# Altium schematic symbol library Thermistor - NTC.SchLib: 283 symbols (part 3 of 5)
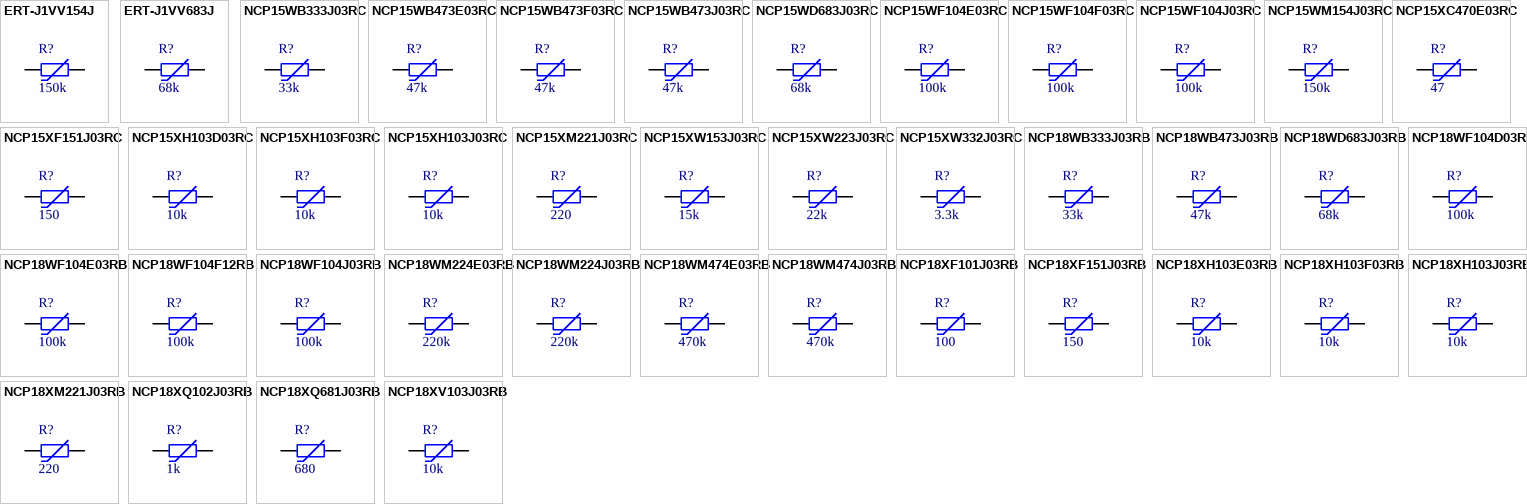
[diagram p9: symbols ERT-J1VV154J to NCP18XV103J03RB]

## NCP15WF104F03RC
designator R?  Resistance in Ohms @ 25C: 100k
THERMISTOR NTC 100K OHM 1% 0402; Part Number: NCP15WF104F03RC; Manufacturer: Murata Electronics North America; TemperatureRange: -40C ~ 125C; B25/50: 4250K; B25/85: 4311K; B25/100: 4334K; Power - Max: 100mW; Value: 100k; PartId: 16482; Supplier 1: Digi-Key; Supplier Part Number 1: 490-4803-2-ND; ComponentLink1Description: Datasheet; ComponentLink1URL: http://www.murata.com/~/media/webrenewal/support/library/catalog/products/thermistor/ntc/r44e.ashx; ComponentLink2Description: Digi-Key Listing; ComponentLink2URL: https://www.digikey.com/product-detail/en/murata-electronics-north-america/NCP15WF104F03RC/490-4803-2-ND/1644668; Price: 0.0372; Resistance Tolerance: 1%; B Value Tolerance: 1%; Device Package: 0402 (1005 Metric)
footprint FER 0402/1005
pins: 1, 2

## NCP15WF104J03RC
designator R?  Resistance in Ohms @ 25C: 100k
THERMISTOR NTC 100K OHM 5% 0402; Part Number: NCP15WF104J03RC; Manufacturer: Murata Electronics North America; TemperatureRange: -40C ~ 125C; B Value Tolerance: 1%; B25/50: 4250K; B25/85: 4311K; B25/100: 4334K; Power - Max: 100mW; Value: 100k; PartId: 16502; Supplier 1: Digi-Key; Supplier Part Number 1: 490-2404-2-ND; ComponentLink1Description: Datasheet; ComponentLink1URL: http://www.murata.com/~/media/webrenewal/support/library/catalog/products/thermistor/ntc/r44e.ashx; ComponentLink2Description: Digi-Key Listing; ComponentLink2URL: https://www.digikey.com/product-detail/en/murata-electronics-north-america/NCP15WF104J03RC/490-2404-2-ND/588425; Price: 0.0314; Resistance Tolerance: 5%; Device Package: 0402 (1005 Metric)
footprint FER 0402/1005
pins: 1, 2

## NCP15WM154J03RC
designator R?  Resistance in Ohms @ 25C: 150k
THERMISTOR 150K OHM NTC 0402 SMD; Part Number: NCP15WM154J03RC; Manufacturer: Murata Electronics North America; TemperatureRange: -40C ~ 125C; Resistance Tolerance: 5%; B Value Tolerance: 3%; B25/50: 4500K; B25/85: 4582K; B25/100: 4614K; Power - Max: 100mW; Value: 150k; PartId: 16499; Supplier 1: Digi-Key; Supplier Part Number 1: 490-2405-2-ND; ComponentLink1Description: Datasheet; ComponentLink1URL: http://www.murata.com/~/media/webrenewal/support/library/catalog/products/thermistor/ntc/r44e.ashx; ComponentLink2Description: Digi-Key Listing; ComponentLink2URL: https://www.digikey.com/product-detail/en/murata-electronics-north-america/NCP15WM154J03RC/490-2405-2-ND/588426; Price: 0.0408; Device Package: 0402 (1005 Metric)
footprint FER 0402/1005
pins: 1, 2

## NCP15XC470E03RC
designator R?  Resistance in Ohms @ 25C: 47
THERMISTOR 47 OHM NTC 0402 SMD; Part Number: NCP15XC470E03RC; Manufacturer: Murata Electronics North America; Value: 47; TemperatureRange: -40C ~ 125C; Resistance Tolerance: 3%; B25/50: 3100K; B25/85: 3128K; B25/100: 3136K; Power - Max: 100mW; PartId: 16494; Supplier 1: Digi-Key; Supplier Part Number 1: 490-6939-2-ND; ComponentLink1Description: Datasheet; ComponentLink1URL: http://www.murata.com/~/media/webrenewal/support/library/catalog/products/thermistor/ntc/r44e.ashx; ComponentLink2Description: Digi-Key Listing; ComponentLink2URL: https://www.digikey.com/product-detail/en/murata-electronics-north-america/NCP15XC470E03RC/490-6939-2-ND/2595081; Price: 0.0419; B Value Tolerance: 3%; Device Package: 0402 (1005 Metric)
footprint FER 0402/1005
pins: 1, 2

## NCP15XF151J03RC
designator R?  Resistance in Ohms @ 25C: 150
THERMISTOR 150 OHM NTC 0402 SMD; Part Number: NCP15XF151J03RC; Manufacturer: Murata Electronics North America; Value: 150; TemperatureRange: -40C ~ 125C; Resistance Tolerance: 5%; B Value Tolerance: 3%; B25/50: 3250K; B25/85: 3284K; B25/100: 3296K; Power - Max: 100mW; PartId: 16558; Supplier 1: Digi-Key; Supplier Part Number 1: 490-2413-2-ND; ComponentLink1Description: Datasheet; ComponentLink1URL: http://www.murata.com/~/media/webrenewal/support/library/catalog/products/thermistor/ntc/r44e.ashx; ComponentLink2Description: Digi-Key Listing; ComponentLink2URL: https://www.digikey.com/product-detail/en/murata-electronics-north-america/NCP15XF151J03RC/490-2413-2-ND/588434; Price: 0.0408; Device Package: 0402 (1005 Metric)
footprint FER 0402/1005
pins: 1, 2

## NCP15XH103D03RC
designator R?  Resistance in Ohms @ 25C: 10k
LEADED NTC THERMISTOR; Part Number: NCP15XH103D03RC; Manufacturer: Murata Electronics North America; Value: 10k; TemperatureRange: -40C ~ 125C; Resistance Tolerance: 0.5%; B Value Tolerance: 0.7%; B25/50: 3380K; B25/85: 3434K; B25/100: 3455K; Power - Max: 100mW; PartId: 16562; Supplier 1: Digi-Key; Supplier Part Number 1: 490-12810-2-ND; ComponentLink1Description: Datasheet; ComponentLink1URL: http://www.murata.com/~/media/webrenewal/support/library/catalog/products/thermistor/ntc/r44e.ashx; ComponentLink2Description: Digi-Key Listing; ComponentLink2URL: https://www.digikey.com/product-detail/en/murata-electronics-north-america/NCP15XH103D03RC/490-12810-2-ND/5848490; Price: 0.1602; Device Package: 0402 (1005 Metric)
footprint FER 0402/1005
pins: 1, 2

## NCP15XH103F03RC
designator R?  Resistance in Ohms @ 25C: 10k
THERMISTOR 10K OHM NTC 0402 SMD; Part Number: NCP15XH103F03RC; Manufacturer: Murata Electronics North America; TemperatureRange: -40C ~ 125C; Resistance Tolerance: 1%; B25/50: 3380K; B25/85: 3434K; B25/100: 3455K; Power - Max: 100mW; Value: 10k; PartId: 16481; Supplier 1: Digi-Key; Supplier Part Number 1: 490-4801-2-ND; ComponentLink1Description: Datasheet; ComponentLink1URL: http://www.murata.com/~/media/webrenewal/support/library/catalog/products/thermistor/ntc/r44e.ashx; ComponentLink2Description: Digi-Key Listing; ComponentLink2URL: https://www.digikey.com/product-detail/en/murata-electronics-north-america/NCP15XH103F03RC/490-4801-2-ND/1644666; Price: 0.0372; B Value Tolerance: 1%; Device Package: 0402 (1005 Metric)
footprint FER 0402/1005
pins: 1, 2

## NCP15XH103J03RC
designator R?  Resistance in Ohms @ 25C: 10k
THERMISTOR 10K OHM NTC 0402 SMD; Part Number: NCP15XH103J03RC; Manufacturer: Murata Electronics North America; TemperatureRange: -40C ~ 125C; Resistance Tolerance: 5%; B Value Tolerance: 1%; B25/50: 3380K; B25/85: 3434K; B25/100: 3455K; Power - Max: 100mW; Value: 10k; PartId: 16486; Supplier 1: Digi-Key; Supplier Part Number 1: 490-2414-2-ND; ComponentLink1Description: Datasheet; ComponentLink1URL: http://www.murata.com/~/media/webrenewal/support/library/catalog/products/thermistor/ntc/r44e.ashx; ComponentLink2Description: Digi-Key Listing; ComponentLink2URL: https://www.digikey.com/product-detail/en/murata-electronics-north-america/NCP15XH103J03RC/490-2414-2-ND/588435; Price: 0.0314; Device Package: 0402 (1005 Metric)
footprint FER 0402/1005
pins: 1, 2

## NCP15XM221J03RC
designator R?  Resistance in Ohms @ 25C: 220
THERMISTOR 220 OHM NTC 0402 SMD; Part Number: NCP15XM221J03RC; Manufacturer: Murata Electronics North America; Value: 220; TemperatureRange: -40C ~ 125C; Resistance Tolerance: 5%; B Value Tolerance: 3%; B25/50: 3500K; B25/85: 3545K; B25/100: 3560K; Power - Max: 100mW; PartId: 16505; Supplier 1: Digi-Key; Supplier Part Number 1: 490-2415-2-ND; ComponentLink1Description: Datasheet; ComponentLink1URL: http://www.murata.com/~/media/webrenewal/support/library/catalog/products/thermistor/ntc/r44e.ashx; ComponentLink2Description: Digi-Key Listing; ComponentLink2URL: https://www.digikey.com/product-detail/en/murata-electronics-north-america/NCP15XM221J03RC/490-2415-2-ND/588436; Price: 0.0408; Device Package: 0402 (1005 Metric)
footprint FER 0402/1005
pins: 1, 2

## NCP15XW153J03RC
designator R?  Resistance in Ohms @ 25C: 15k
THERMISTOR 15K OHM NTC 0402 SMD; Part Number: NCP15XW153J03RC; Manufacturer: Murata Electronics North America; TemperatureRange: -40C ~ 125C; Resistance Tolerance: 5%; B Value Tolerance: 3%; B25/50: 3950K; B25/85: 3987K; B25/100: 3998K; Power - Max: 100mW; Value: 15k; PartId: 16501; Supplier 1: Digi-Key; Supplier Part Number 1: 490-2422-2-ND; ComponentLink1Description: Datasheet; ComponentLink1URL: http://www.murata.com/~/media/webrenewal/support/library/catalog/products/thermistor/ntc/r44e.ashx; ComponentLink2Description: Digi-Key Listing; ComponentLink2URL: https://www.digikey.com/product-detail/en/murata-electronics-north-america/NCP15XW153J03RC/490-2422-2-ND/588443; Price: 0.0408; Device Package: 0402 (1005 Metric)
footprint FER 0402/1005
pins: 1, 2

## NCP15XW223J03RC
designator R?  Resistance in Ohms @ 25C: 22k
THERMISTOR 22K OHM NTC 0402 SMD; Part Number: NCP15XW223J03RC; Manufacturer: Murata Electronics North America; TemperatureRange: -40C ~ 125C; Resistance Tolerance: 5%; B Value Tolerance: 3%; B25/50: 3950K; B25/85: 3987K; B25/100: 3998K; Power - Max: 100mW; Value: 22k; PartId: 16557; Supplier 1: Digi-Key; Supplier Part Number 1: 490-2424-2-ND; ComponentLink1Description: Datasheet; ComponentLink1URL: http://www.murata.com/~/media/webrenewal/support/library/catalog/products/thermistor/ntc/r44e.ashx; ComponentLink2Description: Digi-Key Listing; ComponentLink2URL: https://www.digikey.com/product-detail/en/murata-electronics-north-america/NCP15XW223J03RC/490-2424-2-ND/588445; Price: 0.0408; Device Package: 0402 (1005 Metric)
footprint FER 0402/1005
pins: 1, 2

## NCP15XW332J03RC
designator R?  Resistance in Ohms @ 25C: 3.3k
THERMISTOR 3.3K OHM NTC 0402 SMD; Part Number: NCP15XW332J03RC; Manufacturer: Murata Electronics North America; TemperatureRange: -40C ~ 125C; Resistance Tolerance: 5%; B Value Tolerance: 3%; B25/50: 3950K; B25/85: 3987K; B25/100: 3998K; Power - Max: 100mW; Value: 3.3k; PartId: 16531; Supplier 1: Digi-Key; Supplier Part Number 1: 490-2425-2-ND; ComponentLink1Description: Datasheet; ComponentLink1URL: http://www.murata.com/~/media/webrenewal/support/library/catalog/products/thermistor/ntc/r44e.ashx; ComponentLink2Description: Digi-Key Listing; ComponentLink2URL: https://www.digikey.com/product-detail/en/murata-electronics-north-america/NCP15XW332J03RC/490-2425-2-ND/588446; Price: 0.0408; Device Package: 0402 (1005 Metric)
footprint FER 0402/1005
pins: 1, 2

## NCP18WB333J03RB
designator R?  Resistance in Ohms @ 25C: 33k
THERMISTOR 33K OHM NTC 0603 SMD; Part Number: NCP18WB333J03RB; Manufacturer: Murata Electronics North America; TemperatureRange: -40C ~ 125C; Resistance Tolerance: 5%; B Value Tolerance: 3%; B25/50: 4050K; B25/85: 4108K; B25/100: 4131K; Power - Max: 100mW; Value: 33k; PartId: 16695; Supplier 1: Digi-Key; Supplier Part Number 1: 490-2427-2-ND; ComponentLink1Description: Datasheet; ComponentLink1URL: http://www.murata.com/~/media/webrenewal/support/library/catalog/products/thermistor/ntc/r44e.ashx; ComponentLink2Description: Digi-Key Listing; ComponentLink2URL: https://www.digikey.com/product-detail/en/murata-electronics-north-america/NCP18WB333J03RB/490-2427-2-ND/588448; Price: 0.0765; Device Package: 0603 (1608 Metric)
footprint FER 0603/1608
pins: 1, 2

## NCP18WB473J03RB
designator R?  Resistance in Ohms @ 25C: 47k
THERMISTOR 47K OHM NTC 0603 SMD; Part Number: NCP18WB473J03RB; Manufacturer: Murata Electronics North America; TemperatureRange: -40C ~ 125C; Resistance Tolerance: 5%; B Value Tolerance: 2%; B25/50: 4050K; B25/85: 4108K; B25/100: 4131K; Power - Max: 100mW; Value: 47k; PartId: 16596; Supplier 1: Digi-Key; Supplier Part Number 1: 490-2428-2-ND; ComponentLink1Description: Datasheet; ComponentLink1URL: http://www.murata.com/~/media/webrenewal/support/library/catalog/products/thermistor/ntc/r44e.ashx; ComponentLink2Description: Digi-Key Listing; ComponentLink2URL: https://www.digikey.com/product-detail/en/murata-electronics-north-america/NCP18WB473J03RB/490-2428-2-ND/588449; Price: 0.0686; Device Package: 0603 (1608 Metric)
footprint FER 0603/1608
pins: 1, 2

## NCP18WD683J03RB
designator R?  Resistance in Ohms @ 25C: 68k
THERMISTOR 68K OHM NTC 0603 SMD; Part Number: NCP18WD683J03RB; Manufacturer: Murata Electronics North America; TemperatureRange: -40C ~ 125C; Resistance Tolerance: 5%; B Value Tolerance: 3%; B25/50: 4150K; B25/85: 4209K; B25/100: 4232K; Power - Max: 100mW; Value: 68k; PartId: 16605; Supplier 1: Digi-Key; Supplier Part Number 1: 490-2429-2-ND; ComponentLink1Description: Datasheet; ComponentLink1URL: http://www.murata.com/~/media/webrenewal/support/library/catalog/products/thermistor/ntc/r44e.ashx; ComponentLink2Description: Digi-Key Listing; ComponentLink2URL: https://www.digikey.com/product-detail/en/murata-electronics-north-america/NCP18WD683J03RB/490-2429-2-ND/588450; Price: 0.0765; Device Package: 0603 (1608 Metric)
footprint FER 0603/1608
pins: 1, 2

## NCP18WF104D03RB
designator R?  Resistance in Ohms @ 25C: 100k
THERMISTOR NTC 100KOHM 0.5% 0603; Part Number: NCP18WF104D03RB; Manufacturer: Murata Electronics North America; Value: 100k; TemperatureRange: -40C ~ 125C; B25/50: 4250K; B25/85: 4260K; B25/100: 4282K; Power - Max: 100mW; PartId: 16609; Supplier 1: Digi-Key; Supplier Part Number 1: 490-11811-2-ND; ComponentLink1Description: Datasheet; ComponentLink1URL: http://www.murata.com/~/media/webrenewal/support/library/catalog/products/thermistor/ntc/r44e.ashx; ComponentLink2Description: Digi-Key Listing; ComponentLink2URL: https://www.digikey.com/product-detail/en/murata-electronics-north-america/NCP18WF104D03RB/490-11811-2-ND/5822864; Price: 0.207; Resistance Tolerance: 0.5%; B Value Tolerance: 0.5%; Device Package: 0603 (1608 Metric)
footprint FER 0603/1608
pins: 1, 2

## NCP18WF104E03RB
designator R?  Resistance in Ohms @ 25C: 100k
THERMISTOR NTC 100K OHM 3% 0603; Part Number: NCP18WF104E03RB; Manufacturer: Murata Electronics North America; TemperatureRange: -40C ~ 125C; B Value Tolerance: 2%; B25/50: 4250K; B25/85: 4260K; B25/100: 4282K; Power - Max: 100mW; Value: 100k; PartId: 16606; Supplier 1: Digi-Key; Supplier Part Number 1: 490-6943-2-ND; ComponentLink1Description: Datasheet; ComponentLink1URL: http://www.murata.com/~/media/webrenewal/support/library/catalog/products/thermistor/ntc/r44e.ashx; ComponentLink2Description: Digi-Key Listing; ComponentLink2URL: https://www.digikey.com/product-detail/en/murata-electronics-north-america/NCP18WF104E03RB/490-6943-2-ND/2595102; Price: 0.0741; Resistance Tolerance: 3%; Device Package: 0603 (1608 Metric)
footprint FER 0603/1608
pins: 1, 2

## NCP18WF104F12RB
designator R?  Resistance in Ohms @ 25C: 100k
THERMISTOR NTC 100K OHM 1% 0603; Part Number: NCP18WF104F12RB; Manufacturer: Murata Electronics North America; TemperatureRange: -40C ~ 125C; B25/50: 4200K; B25/85: 4260K; B25/100: 4282K; Power - Max: 100mW; Value: 100k; PartId: 16686; Supplier 1: Digi-Key; Supplier Part Number 1: 490-11812-2-ND; ComponentLink1Description: Datasheet; ComponentLink1URL: http://www.murata.com/~/media/webrenewal/support/library/catalog/products/thermistor/ntc/r44e.ashx; ComponentLink2Description: Digi-Key Listing; ComponentLink2URL: https://www.digikey.com/product-detail/en/murata-electronics-north-america/NCP18WF104F12RB/490-11812-2-ND/5465650; Price: 0.1763; Resistance Tolerance: 1%; B Value Tolerance: 1%; Device Package: 0603 (1608 Metric)
footprint FER 0603/1608
pins: 1, 2

## NCP18WF104J03RB
designator R?  Resistance in Ohms @ 25C: 100k
THERMISTOR NTC 100K OHM 5% 0603; Part Number: NCP18WF104J03RB; Manufacturer: Murata Electronics North America; TemperatureRange: -40C ~ 125C; B Value Tolerance: 2%; B25/50: 4250K; B25/85: 4260K; B25/100: 4282K; Power - Max: 100mW; Value: 100k; PartId: 16587; Supplier 1: Digi-Key; Supplier Part Number 1: 490-2430-2-ND; ComponentLink1Description: Datasheet; ComponentLink1URL: http://www.murata.com/~/media/webrenewal/support/library/catalog/products/thermistor/ntc/r44e.ashx; ComponentLink2Description: Digi-Key Listing; ComponentLink2URL: https://www.digikey.com/product-detail/en/murata-electronics-north-america/NCP18WF104J03RB/490-2430-2-ND/588451; Price: 0.0686; Resistance Tolerance: 5%; Device Package: 0603 (1608 Metric)
footprint FER 0603/1608
pins: 1, 2

## NCP18WM224E03RB
designator R?  Resistance in Ohms @ 25C: 220k
THERMISTOR; Part Number: NCP18WM224E03RB; Manufacturer: Murata Electronics North America; Value: 220k; TemperatureRange: -40C ~ 125C; Resistance Tolerance: 3%; B25/50: 4500K; B25/85: 4582K; B25/100: 4614K; Power - Max: 100mW; PartId: 16634; Supplier 1: Digi-Key; Supplier Part Number 1: 490-8456-2-ND; ComponentLink1Description: Datasheet; ComponentLink1URL: http://www.murata.com/~/media/webrenewal/support/library/catalog/products/thermistor/ntc/r44e.ashx; ComponentLink2Description: Digi-Key Listing; ComponentLink2URL: https://www.digikey.com/product-detail/en/murata-electronics-north-america/NCP18WM224E03RB/490-8456-2-ND/2595105; Price: 0.087; B Value Tolerance: 3%; Device Package: 0603 (1608 Metric)
footprint FER 0603/1608
pins: 1, 2

## NCP18WM224J03RB
designator R?  Resistance in Ohms @ 25C: 220k
THERMISTOR 220K OHM NTC 0603 SMD; Part Number: NCP18WM224J03RB; Manufacturer: Murata Electronics North America; TemperatureRange: -40C ~ 125C; Resistance Tolerance: 5%; B Value Tolerance: 3%; B25/50: 4500K; B25/85: 4582K; B25/100: 4614K; Power - Max: 100mW; Value: 220k; PartId: 16592; Supplier 1: Digi-Key; Supplier Part Number 1: 490-2432-2-ND; ComponentLink1Description: Datasheet; ComponentLink1URL: http://www.murata.com/~/media/webrenewal/support/library/catalog/products/thermistor/ntc/r44e.ashx; ComponentLink2Description: Digi-Key Listing; ComponentLink2URL: https://www.digikey.com/product-detail/en/murata-electronics-north-america/NCP18WM224J03RB/490-2432-2-ND/588453; Price: 0.0765; Device Package: 0603 (1608 Metric)
footprint FER 0603/1608
pins: 1, 2

## NCP18WM474E03RB
designator R?  Resistance in Ohms @ 25C: 470k
THERMISTOR; Part Number: NCP18WM474E03RB; Manufacturer: Murata Electronics North America; Value: 470k; TemperatureRange: -40C ~ 125C; Resistance Tolerance: 3%; B25/50: 4500K; B25/85: 4582K; B25/100: 4614K; Power - Max: 100mW; PartId: 16683; Supplier 1: Digi-Key; Supplier Part Number 1: 490-8457-2-ND; ComponentLink1Description: Datasheet; ComponentLink1URL: http://www.murata.com/~/media/webrenewal/support/library/catalog/products/thermistor/ntc/r44e.ashx; ComponentLink2Description: Digi-Key Listing; ComponentLink2URL: https://www.digikey.com/product-detail/en/murata-electronics-north-america/NCP18WM474E03RB/490-8457-2-ND/2595106; Price: 0.087; B Value Tolerance: 3%; Device Package: 0603 (1608 Metric)
footprint FER 0603/1608
pins: 1, 2

## NCP18WM474J03RB
designator R?  Resistance in Ohms @ 25C: 470k
THERMISTOR 470K OHM NTC 0603 SMD; Part Number: NCP18WM474J03RB; Manufacturer: Murata Electronics North America; TemperatureRange: -40C ~ 125C; Resistance Tolerance: 5%; B Value Tolerance: 3%; B25/50: 4500K; B25/85: 4582K; B25/100: 4614K; Power - Max: 100mW; Value: 470k; PartId: 16580; Supplier 1: Digi-Key; Supplier Part Number 1: 490-2433-2-ND; ComponentLink1Description: Datasheet; ComponentLink1URL: http://www.murata.com/~/media/webrenewal/support/library/catalog/products/thermistor/ntc/r44e.ashx; ComponentLink2Description: Digi-Key Listing; ComponentLink2URL: https://www.digikey.com/product-detail/en/murata-electronics-north-america/NCP18WM474J03RB/490-2433-2-ND/588454; Price: 0.0765; Device Package: 0603 (1608 Metric)
footprint FER 0603/1608
pins: 1, 2

## NCP18XF101J03RB
designator R?  Resistance in Ohms @ 25C: 100
THERMISTOR 100 OHM NTC 0603 SMD; Part Number: NCP18XF101J03RB; Manufacturer: Murata Electronics North America; Value: 100; TemperatureRange: -40C ~ 125C; Resistance Tolerance: 5%; B Value Tolerance: 3%; B25/50: 3250K; B25/85: 3284K; B25/100: 3296K; Power - Max: 100mW; PartId: 16585; Supplier 1: Digi-Key; Supplier Part Number 1: 490-2434-2-ND; ComponentLink1Description: Datasheet; ComponentLink1URL: http://www.murata.com/~/media/webrenewal/support/library/catalog/products/thermistor/ntc/r44e.ashx; ComponentLink2Description: Digi-Key Listing; ComponentLink2URL: https://www.digikey.com/product-detail/en/murata-electronics-north-america/NCP18XF101J03RB/490-2434-2-ND/588455; Price: 0.0765; Device Package: 0603 (1608 Metric)
footprint FER 0603/1608
pins: 1, 2

## NCP18XF151J03RB
designator R?  Resistance in Ohms @ 25C: 150
THERMISTOR 150 OHM NTC 0603 SMD; Part Number: NCP18XF151J03RB; Manufacturer: Murata Electronics North America; Value: 150; TemperatureRange: -40C ~ 125C; Resistance Tolerance: 5%; B Value Tolerance: 3%; B25/50: 3250K; B25/85: 3284K; B25/100: 3296K; Power - Max: 100mW; PartId: 16692; Supplier 1: Digi-Key; Supplier Part Number 1: 490-2435-2-ND; ComponentLink1Description: Datasheet; ComponentLink1URL: http://www.murata.com/~/media/webrenewal/support/library/catalog/products/thermistor/ntc/r44e.ashx; ComponentLink2Description: Digi-Key Listing; ComponentLink2URL: https://www.digikey.com/product-detail/en/murata-electronics-north-america/NCP18XF151J03RB/490-2435-2-ND/588456; Price: 0.0765; Device Package: 0603 (1608 Metric)
footprint FER 0603/1608
pins: 1, 2

## NCP18XH103E03RB
designator R?  Resistance in Ohms @ 25C: 10k
THERMISTOR; Part Number: NCP18XH103E03RB; Manufacturer: Murata Electronics North America; Value: 10k; TemperatureRange: -40C ~ 125C; Resistance Tolerance: 3%; B Value Tolerance: 1%; B25/50: 3380K; B25/85: 3434K; B25/100: 3455K; Power - Max: 100mW; PartId: 16693; Supplier 1: Digi-Key; Supplier Part Number 1: 490-8458-2-ND; ComponentLink1Description: Datasheet; ComponentLink1URL: http://www.murata.com/~/media/webrenewal/support/library/catalog/products/thermistor/ntc/r44e.ashx; ComponentLink2Description: Digi-Key Listing; ComponentLink2URL: https://www.digikey.com/product-detail/en/murata-electronics-north-america/NCP18XH103E03RB/490-8458-2-ND/2595107; Price: 0.0741; Device Package: 0603 (1608 Metric)
footprint FER 0603/1608
pins: 1, 2

## NCP18XH103F03RB
designator R?  Resistance in Ohms @ 25C: 10k
THERMISTOR 10K OHM NTC 0603 SMD; Part Number: NCP18XH103F03RB; Manufacturer: Murata Electronics North America; TemperatureRange: -40C ~ 125C; Resistance Tolerance: 1%; B25/50: 3380K; B25/85: 3434K; B25/100: 3455K; Power - Max: 100mW; Value: 10k; PartId: 16574; Supplier 1: Digi-Key; Supplier Part Number 1: 490-4800-2-ND; ComponentLink1Description: Datasheet; ComponentLink1URL: http://www.murata.com/~/media/webrenewal/support/library/catalog/products/thermistor/ntc/r44e.ashx; ComponentLink2Description: Digi-Key Listing; ComponentLink2URL: https://www.digikey.com/product-detail/en/murata-electronics-north-america/NCP18XH103F03RB/490-4800-2-ND/1644665; Price: 0.0792; B Value Tolerance: 1%; Device Package: 0603 (1608 Metric)
footprint FER 0603/1608
pins: 1, 2

## NCP18XH103J03RB
designator R?  Resistance in Ohms @ 25C: 10k
THERMISTOR 10K OHM NTC 0603 SMD; Part Number: NCP18XH103J03RB; Manufacturer: Murata Electronics North America; TemperatureRange: -40C ~ 125C; Resistance Tolerance: 5%; B Value Tolerance: 1%; B25/50: 3380K; B25/85: 3434K; B25/100: 3455K; Power - Max: 100mW; Value: 10k; PartId: 16582; Supplier 1: Digi-Key; Supplier Part Number 1: 490-2436-2-ND; ComponentLink1Description: Datasheet; ComponentLink1URL: http://www.murata.com/~/media/webrenewal/support/library/catalog/products/thermistor/ntc/r44e.ashx; ComponentLink2Description: Digi-Key Listing; ComponentLink2URL: https://www.digikey.com/product-detail/en/murata-electronics-north-america/NCP18XH103J03RB/490-2436-2-ND/588457; Price: 0.0686; Device Package: 0603 (1608 Metric)
footprint FER 0603/1608
pins: 1, 2

## NCP18XM221J03RB
designator R?  Resistance in Ohms @ 25C: 220
THERMISTOR 220 OHM NTC 0603 SMD; Part Number: NCP18XM221J03RB; Manufacturer: Murata Electronics North America; Value: 220; TemperatureRange: -40C ~ 125C; Resistance Tolerance: 5%; B Value Tolerance: 3%; B25/50: 3500K; B25/85: 3545K; B25/100: 3560K; Power - Max: 100mW; PartId: 16684; Supplier 1: Digi-Key; Supplier Part Number 1: 490-2437-2-ND; ComponentLink1Description: Datasheet; ComponentLink1URL: http://www.murata.com/~/media/webrenewal/support/library/catalog/products/thermistor/ntc/r44e.ashx; ComponentLink2Description: Digi-Key Listing; ComponentLink2URL: https://www.digikey.com/product-detail/en/murata-electronics-north-america/NCP18XM221J03RB/490-2437-2-ND/588458; Price: 0.0765; Device Package: 0603 (1608 Metric)
footprint FER 0603/1608
pins: 1, 2

## NCP18XQ102J03RB
designator R?  Resistance in Ohms @ 25C: 1k
THERMISTOR 1K OHM NTC 0603 SMD; Part Number: NCP18XQ102J03RB; Manufacturer: Murata Electronics North America; TemperatureRange: -40C ~ 125C; Resistance Tolerance: 5%; B Value Tolerance: 2%; B25/50: 3650K; B25/85: 3693K; B25/100: 3706K; Power - Max: 100mW; Value: 1k; PartId: 16595; Supplier 1: Digi-Key; Supplier Part Number 1: 490-2440-2-ND; ComponentLink1Description: Datasheet; ComponentLink1URL: http://www.murata.com/~/media/webrenewal/support/library/catalog/products/thermistor/ntc/r44e.ashx; ComponentLink2Description: Digi-Key Listing; ComponentLink2URL: https://www.digikey.com/product-detail/en/murata-electronics-north-america/NCP18XQ102J03RB/490-2440-2-ND/588461; Price: 0.0765; Device Package: 0603 (1608 Metric)
footprint FER 0603/1608
pins: 1, 2

## NCP18XQ681J03RB
designator R?  Resistance in Ohms @ 25C: 680
THERMISTOR 680 OHM NTC 0603 SMD; Part Number: NCP18XQ681J03RB; Manufacturer: Murata Electronics North America; Value: 680; TemperatureRange: -40C ~ 125C; Resistance Tolerance: 5%; B Value Tolerance: 3%; B25/50: 3650K; B25/85: 3693K; B25/100: 3706K; Power - Max: 100mW; PartId: 16623; Supplier 1: Digi-Key; Supplier Part Number 1: 490-2442-2-ND; ComponentLink1Description: Datasheet; ComponentLink1URL: http://www.murata.com/~/media/webrenewal/support/library/catalog/products/thermistor/ntc/r44e.ashx; ComponentLink2Description: Digi-Key Listing; ComponentLink2URL: https://www.digikey.com/product-detail/en/murata-electronics-north-america/NCP18XQ681J03RB/490-2442-2-ND/588463; Price: 0.0765; Device Package: 0603 (1608 Metric)
footprint FER 0603/1608
pins: 1, 2

## NCP18XV103J03RB
designator R?  Resistance in Ohms @ 25C: 10k
THERMISTOR 10K OHM NTC 0603 SMD; Part Number: NCP18XV103J03RB; Manufacturer: Murata Electronics North America; TemperatureRange: -40C ~ 125C; Resistance Tolerance: 5%; B Value Tolerance: 3%; B25/50: 3900K; B25/85: 3934K; B25/100: 3944K; Power - Max: 100mW; Value: 10k; PartId: 16589; Supplier 1: Digi-Key; Supplier Part Number 1: 490-6944-2-ND; ComponentLink1Description: Datasheet; ComponentLink1URL: http://www.murata.com/~/media/webrenewal/support/library/catalog/products/thermistor/ntc/r44e.ashx; ComponentLink2Description: Digi-Key Listing; ComponentLink2URL: https://www.digikey.com/product-detail/en/murata-electronics-north-america/NCP18XV103J03RB/490-6944-2-ND/2595113; Price: 0.0765; Device Package: 0603 (1608 Metric)
footprint FER 0603/1608
pins: 1, 2

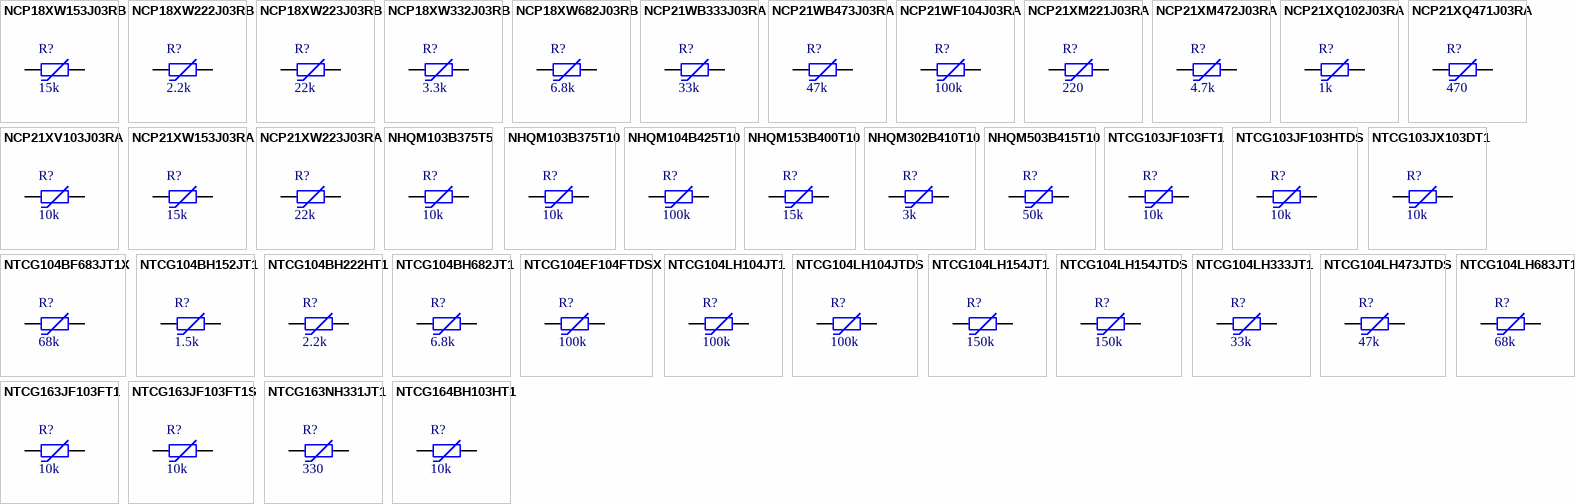
[diagram p4: symbols NCP18XW153J03RB to NTCG164BH103HT1]

## NCP18XW153J03RB
designator R?  Resistance in Ohms @ 25C: 15k
THERMISTOR 15K OHM NTC 0603 SMD; Part Number: NCP18XW153J03RB; Manufacturer: Murata Electronics North America; TemperatureRange: -40C ~ 125C; Resistance Tolerance: 5%; B Value Tolerance: 3%; B25/50: 3950K; B25/85: 3987K; B25/100: 3998K; Power - Max: 100mW; Value: 15k; PartId: 16622; Supplier 1: Digi-Key; Supplier Part Number 1: 490-2444-2-ND; ComponentLink1Description: Datasheet; ComponentLink1URL: http://www.murata.com/~/media/webrenewal/support/library/catalog/products/thermistor/ntc/r44e.ashx; ComponentLink2Description: Digi-Key Listing; ComponentLink2URL: https://www.digikey.com/product-detail/en/murata-electronics-north-america/NCP18XW153J03RB/490-2444-2-ND/588465; Price: 0.0765; Device Package: 0603 (1608 Metric)
footprint FER 0603/1608
pins: 1, 2

## NCP18XW222J03RB
designator R?  Resistance in Ohms @ 25C: 2.2k
THERMISTOR 2.2K OHM NTC 0603 SMD; Part Number: NCP18XW222J03RB; Manufacturer: Murata Electronics North America; TemperatureRange: -40C ~ 125C; Resistance Tolerance: 5%; B Value Tolerance: 3%; B25/50: 3950K; B25/85: 3987K; B25/100: 3998K; Power - Max: 100mW; Value: 2.2k; PartId: 16594; Supplier 1: Digi-Key; Supplier Part Number 1: 490-2445-2-ND; ComponentLink1Description: Datasheet; ComponentLink1URL: http://www.murata.com/~/media/webrenewal/support/library/catalog/products/thermistor/ntc/r44e.ashx; ComponentLink2Description: Digi-Key Listing; ComponentLink2URL: https://www.digikey.com/product-detail/en/murata-electronics-north-america/NCP18XW222J03RB/490-2445-2-ND/588466; Price: 0.0765; Device Package: 0603 (1608 Metric)
footprint FER 0603/1608
pins: 1, 2

## NCP18XW223J03RB
designator R?  Resistance in Ohms @ 25C: 22k
THERMISTOR 22K OHM NTC 0603 SMD; Part Number: NCP18XW223J03RB; Manufacturer: Murata Electronics North America; TemperatureRange: -40C ~ 125C; Resistance Tolerance: 5%; B Value Tolerance: 3%; B25/50: 3950K; B25/85: 3987K; B25/100: 3998K; Power - Max: 100mW; Value: 22k; PartId: 16604; Supplier 1: Digi-Key; Supplier Part Number 1: 490-2446-2-ND; ComponentLink1Description: Datasheet; ComponentLink1URL: http://www.murata.com/~/media/webrenewal/support/library/catalog/products/thermistor/ntc/r44e.ashx; ComponentLink2Description: Digi-Key Listing; ComponentLink2URL: https://www.digikey.com/product-detail/en/murata-electronics-north-america/NCP18XW223J03RB/490-2446-2-ND/588467; Price: 0.0765; Device Package: 0603 (1608 Metric)
footprint FER 0603/1608
pins: 1, 2

## NCP18XW332J03RB
designator R?  Resistance in Ohms @ 25C: 3.3k
THERMISTOR 3.3K OHM NTC 0603 SMD; Part Number: NCP18XW332J03RB; Manufacturer: Murata Electronics North America; TemperatureRange: -40C ~ 125C; Resistance Tolerance: 5%; B Value Tolerance: 3%; B25/50: 3950K; B25/85: 3987K; B25/100: 3998K; Power - Max: 100mW; Value: 3.3k; PartId: 16613; Supplier 1: Digi-Key; Supplier Part Number 1: 490-2447-2-ND; ComponentLink1Description: Datasheet; ComponentLink1URL: http://www.murata.com/~/media/webrenewal/support/library/catalog/products/thermistor/ntc/r44e.ashx; ComponentLink2Description: Digi-Key Listing; ComponentLink2URL: https://www.digikey.com/product-detail/en/murata-electronics-north-america/NCP18XW332J03RB/490-2447-2-ND/588468; Price: 0.0765; Device Package: 0603 (1608 Metric)
footprint FER 0603/1608
pins: 1, 2

## NCP18XW682J03RB
designator R?  Resistance in Ohms @ 25C: 6.8k
THERMISTOR 6.8K OHM NTC 0603 SMD; Part Number: NCP18XW682J03RB; Manufacturer: Murata Electronics North America; TemperatureRange: -40C ~ 125C; Resistance Tolerance: 5%; B Value Tolerance: 3%; B25/50: 3950K; B25/85: 3987K; B25/100: 3998K; Power - Max: 100mW; Value: 6.8k; PartId: 16584; Supplier 1: Digi-Key; Supplier Part Number 1: 490-2448-2-ND; ComponentLink1Description: Datasheet; ComponentLink1URL: http://www.murata.com/~/media/webrenewal/support/library/catalog/products/thermistor/ntc/r44e.ashx; ComponentLink2Description: Digi-Key Listing; ComponentLink2URL: https://www.digikey.com/product-detail/en/murata-electronics-north-america/NCP18XW682J03RB/490-2448-2-ND/588469; Price: 0.0765; Device Package: 0603 (1608 Metric)
footprint FER 0603/1608
pins: 1, 2

## NCP21WB333J03RA
designator R?  Resistance in Ohms @ 25C: 33k
THERMISTOR 33K OHM NTC 0805 SMD; Part Number: NCP21WB333J03RA; Manufacturer: Murata Electronics North America; TemperatureRange: -40C ~ 125C; Resistance Tolerance: 5%; B Value Tolerance: 3%; B25/50: 4050K; B25/85: 4108K; B25/100: 4131K; Power - Max: 200mW; Value: 33k; PartId: 16714; Supplier 1: Digi-Key; Supplier Part Number 1: 490-2449-2-ND; ComponentLink1Description: Datasheet; ComponentLink1URL: http://www.murata.com/~/media/webrenewal/support/library/catalog/products/thermistor/ntc/r44e.ashx; ComponentLink2Description: Digi-Key Listing; ComponentLink2URL: https://www.digikey.com/product-detail/en/murata-electronics-north-america/NCP21WB333J03RA/490-2449-2-ND/588470; Price: 0.0732; Device Package: 0805 (2012 Metric)
footprint NTC 0805/2012
pins: 1, 2

## NCP21WB473J03RA
designator R?  Resistance in Ohms @ 25C: 47k
THERMISTOR 47K OHM NTC 0805 SMD; Part Number: NCP21WB473J03RA; Manufacturer: Murata Electronics North America; TemperatureRange: -40C ~ 125C; Resistance Tolerance: 5%; B Value Tolerance: 3%; B25/50: 4050K; B25/85: 4108K; B25/100: 4131K; Power - Max: 200mW; Value: 47k; PartId: 16707; Supplier 1: Digi-Key; Supplier Part Number 1: 490-2450-2-ND; ComponentLink1Description: Datasheet; ComponentLink1URL: http://www.murata.com/~/media/webrenewal/support/library/catalog/products/thermistor/ntc/r44e.ashx; ComponentLink2Description: Digi-Key Listing; ComponentLink2URL: https://www.digikey.com/product-detail/en/murata-electronics-north-america/NCP21WB473J03RA/490-2450-2-ND/588471; Price: 0.0732; Device Package: 0805 (2012 Metric)
footprint NTC 0805/2012
pins: 1, 2

## NCP21WF104J03RA
designator R?  Resistance in Ohms @ 25C: 100k
THERMISTOR NTC 100K OHM 5% 0805; Part Number: NCP21WF104J03RA; Manufacturer: Murata Electronics North America; TemperatureRange: -40C ~ 125C; B Value Tolerance: 3%; B25/50: 4250K; B25/85: 4311K; B25/100: 4334K; Power - Max: 200mW; Value: 100k; PartId: 16698; Supplier 1: Digi-Key; Supplier Part Number 1: 490-2451-2-ND; ComponentLink1Description: Datasheet; ComponentLink1URL: http://www.murata.com/~/media/webrenewal/support/library/catalog/products/thermistor/ntc/r44e.ashx; ComponentLink2Description: Digi-Key Listing; ComponentLink2URL: https://www.digikey.com/product-detail/en/murata-electronics-north-america/NCP21WF104J03RA/490-2451-2-ND/588472; Price: 0.0732; Resistance Tolerance: 5%; Device Package: 0805 (2012 Metric)
footprint NTC 0805/2012
pins: 1, 2

## NCP21XM221J03RA
designator R?  Resistance in Ohms @ 25C: 220
THERMISTOR 220 OHM NTC 0805 SMD; Part Number: NCP21XM221J03RA; Manufacturer: Murata Electronics North America; Value: 220; TemperatureRange: -40C ~ 125C; Resistance Tolerance: 5%; B Value Tolerance: 3%; B25/50: 3500K; B25/85: 3545K; B25/100: 3560K; Power - Max: 200mW; PartId: 16701; Supplier 1: Digi-Key; Supplier Part Number 1: 490-2452-2-ND; ComponentLink1Description: Datasheet; ComponentLink1URL: http://www.murata.com/~/media/webrenewal/support/library/catalog/products/thermistor/ntc/r44e.ashx; ComponentLink2Description: Digi-Key Listing; ComponentLink2URL: https://www.digikey.com/product-detail/en/murata-electronics-north-america/NCP21XM221J03RA/490-2452-2-ND/588473; Price: 0.0732; Device Package: 0805 (2012 Metric)
footprint NTC 0805/2012
pins: 1, 2

## NCP21XM472J03RA
designator R?  Resistance in Ohms @ 25C: 4.7k
THERMISTOR 4.7K OHM NTC 0805 SMD; Part Number: NCP21XM472J03RA; Manufacturer: Murata Electronics North America; TemperatureRange: -40C ~ 125C; Resistance Tolerance: 5%; B Value Tolerance: 3%; B25/50: 3500K; B25/85: 3545K; B25/100: 3560K; Power - Max: 200mW; Value: 4.7k; PartId: 16702; Supplier 1: Digi-Key; Supplier Part Number 1: 490-2453-2-ND; ComponentLink1Description: Datasheet; ComponentLink1URL: http://www.murata.com/~/media/webrenewal/support/library/catalog/products/thermistor/ntc/r44e.ashx; ComponentLink2Description: Digi-Key Listing; ComponentLink2URL: https://www.digikey.com/product-detail/en/murata-electronics-north-america/NCP21XM472J03RA/490-2453-2-ND/588474; Price: 0.0732; Device Package: 0805 (2012 Metric)
footprint NTC 0805/2012
pins: 1, 2

## NCP21XQ102J03RA
designator R?  Resistance in Ohms @ 25C: 1k
THERMISTOR 1K OHM NTC 0805 SMD; Part Number: NCP21XQ102J03RA; Manufacturer: Murata Electronics North America; TemperatureRange: -40C ~ 125C; Resistance Tolerance: 5%; B Value Tolerance: 3%; B25/50: 3650K; B25/85: 3693K; B25/100: 3706K; Power - Max: 200mW; Value: 1k; PartId: 16735; Supplier 1: Digi-Key; Supplier Part Number 1: 490-2454-2-ND; ComponentLink1Description: Datasheet; ComponentLink1URL: http://www.murata.com/~/media/webrenewal/support/library/catalog/products/thermistor/ntc/r44e.ashx; ComponentLink2Description: Digi-Key Listing; ComponentLink2URL: https://www.digikey.com/product-detail/en/murata-electronics-north-america/NCP21XQ102J03RA/490-2454-2-ND/588475; Price: 0.0732; Device Package: 0805 (2012 Metric)
footprint NTC 0805/2012
pins: 1, 2

## NCP21XQ471J03RA
designator R?  Resistance in Ohms @ 25C: 470
THERMISTOR 470 OHM NTC 0805 SMD; Part Number: NCP21XQ471J03RA; Manufacturer: Murata Electronics North America; Value: 470; TemperatureRange: -40C ~ 125C; Resistance Tolerance: 5%; B Value Tolerance: 3%; B25/50: 3650K; B25/85: 3693K; B25/100: 3706K; Power - Max: 200mW; PartId: 16700; Supplier 1: Digi-Key; Supplier Part Number 1: 490-2455-2-ND; ComponentLink1Description: Datasheet; ComponentLink1URL: http://www.murata.com/~/media/webrenewal/support/library/catalog/products/thermistor/ntc/r44e.ashx; ComponentLink2Description: Digi-Key Listing; ComponentLink2URL: https://www.digikey.com/product-detail/en/murata-electronics-north-america/NCP21XQ471J03RA/490-2455-2-ND/588476; Price: 0.0732; Device Package: 0805 (2012 Metric)
footprint NTC 0805/2012
pins: 1, 2

## NCP21XV103J03RA
designator R?  Resistance in Ohms @ 25C: 10k
THERMISTOR 10K OHM NTC 0805 SMD; Part Number: NCP21XV103J03RA; Manufacturer: Murata Electronics North America; TemperatureRange: -40C ~ 125C; Resistance Tolerance: 5%; B Value Tolerance: 3%; B25/50: 3900K; B25/85: 3934K; B25/100: 3944K; Power - Max: 200mW; Value: 10k; PartId: 16699; Supplier 1: Digi-Key; Supplier Part Number 1: 490-2456-2-ND; ComponentLink1Description: Datasheet; ComponentLink1URL: http://www.murata.com/~/media/webrenewal/support/library/catalog/products/thermistor/ntc/r44e.ashx; ComponentLink2Description: Digi-Key Listing; ComponentLink2URL: https://www.digikey.com/product-detail/en/murata-electronics-north-america/NCP21XV103J03RA/490-2456-2-ND/588477; Price: 0.0732; Device Package: 0805 (2012 Metric)
footprint NTC 0805/2012
pins: 1, 2

## NCP21XW153J03RA
designator R?  Resistance in Ohms @ 25C: 15k
THERMISTOR 15K OHM NTC 0805 SMD; Part Number: NCP21XW153J03RA; Manufacturer: Murata Electronics North America; TemperatureRange: -40C ~ 125C; Resistance Tolerance: 5%; B Value Tolerance: 3%; B25/50: 3950K; B25/85: 3987K; B25/100: 3998K; Power - Max: 200mW; Value: 15k; PartId: 16724; Supplier 1: Digi-Key; Supplier Part Number 1: 490-2457-2-ND; ComponentLink1Description: Datasheet; ComponentLink1URL: http://www.murata.com/~/media/webrenewal/support/library/catalog/products/thermistor/ntc/r44e.ashx; ComponentLink2Description: Digi-Key Listing; ComponentLink2URL: https://www.digikey.com/product-detail/en/murata-electronics-north-america/NCP21XW153J03RA/490-2457-2-ND/588478; Price: 0.0732; Device Package: 0805 (2012 Metric)
footprint NTC 0805/2012
pins: 1, 2

## NCP21XW223J03RA
designator R?  Resistance in Ohms @ 25C: 22k
THERMISTOR 22K OHM NTC 0805 SMD; Part Number: NCP21XW223J03RA; Manufacturer: Murata Electronics North America; TemperatureRange: -40C ~ 125C; Resistance Tolerance: 5%; B Value Tolerance: 3%; B25/50: 3950K; B25/85: 3987K; B25/100: 3998K; Power - Max: 200mW; Value: 22k; PartId: 16704; Supplier 1: Digi-Key; Supplier Part Number 1: 490-2459-2-ND; ComponentLink1Description: Datasheet; ComponentLink1URL: http://www.murata.com/~/media/webrenewal/support/library/catalog/products/thermistor/ntc/r44e.ashx; ComponentLink2Description: Digi-Key Listing; ComponentLink2URL: https://www.digikey.com/product-detail/en/murata-electronics-north-america/NCP21XW223J03RA/490-2459-2-ND/588480; Price: 0.0732; Device Package: 0805 (2012 Metric)
footprint NTC 0805/2012
pins: 1, 2

## NHQM103B375T5
designator R?  Resistance in Ohms @ 25C: 10k
THERMISTOR NTC 10K OHM 5% 0805; Part Number: NHQM103B375T5; Manufacturer: Amphenol Advanced Sensors; TemperatureRange: -40C ~ 125C; B25/85: 3750K; Value: 10k; PartId: 16759; Supplier 1: Digi-Key; Supplier Part Number 1: 235-1352-2-ND; ComponentLink1Description: Datasheet; ComponentLink2Description: Digi-Key Listing; ComponentLink2URL: https://www.digikey.com/product-detail/en/amphenol-advanced-sensors/NHQM103B375T5/235-1352-2-ND/414236; Price: 1.1049; Resistance Tolerance: 5%; B Value Tolerance: 5%; Device Package: 0805 (2012 Metric)
footprint NTC 0805/2012
pins: 1, 2

## NHQM103B375T10
designator R?  Resistance in Ohms @ 25C: 10k
THERMISTOR NTC 10K OHM 10% 0805; Part Number: NHQM103B375T10; Manufacturer: Amphenol Advanced Sensors; TemperatureRange: -40C ~ 125C; B Value Tolerance: 5%; B25/85: 3750K; Value: 10k; PartId: 16726; Supplier 1: Digi-Key; Supplier Part Number 1: 235-1116-2-ND; ComponentLink1Description: Datasheet; ComponentLink2Description: Digi-Key Listing; ComponentLink2URL: https://www.digikey.com/product-detail/en/amphenol-advanced-sensors/NHQM103B375T10/235-1116-2-ND/374822; Price: 0.969; Resistance Tolerance: 10%; Device Package: 0805 (2012 Metric)
footprint NTC 0805/2012
pins: 1, 2

## NHQM104B425T10
designator R?  Resistance in Ohms @ 25C: 100k
THERMISTOR NTC 100K OHM 10% 0805; Part Number: NHQM104B425T10; Manufacturer: Amphenol Advanced Sensors; TemperatureRange: -40C ~ 125C; B Value Tolerance: 5%; B25/85: 4250K; Value: 100k; PartId: 16706; Supplier 1: Digi-Key; Supplier Part Number 1: 235-1119-2-ND; ComponentLink1Description: Datasheet; ComponentLink2Description: Digi-Key Listing; ComponentLink2URL: https://www.digikey.com/product-detail/en/amphenol-advanced-sensors/NHQM104B425T10/235-1119-2-ND/374825; Price: 0.9075; Resistance Tolerance: 10%; Device Package: 0805 (2012 Metric)
footprint NTC 0805/2012
pins: 1, 2

## NHQM153B400T10
designator R?  Resistance in Ohms @ 25C: 15k
THERMISTOR NTC 15K OHM 10% 0805; Part Number: NHQM153B400T10; Manufacturer: Amphenol Advanced Sensors; TemperatureRange: -40C ~ 125C; B Value Tolerance: 5%; B25/85: 4000K; Value: 15k; PartId: 16754; Supplier 1: Digi-Key; Supplier Part Number 1: 235-1117-2-ND; ComponentLink1Description: Datasheet; ComponentLink2Description: Digi-Key Listing; ComponentLink2URL: https://www.digikey.com/product-detail/en/amphenol-advanced-sensors/NHQM153B400T10/235-1117-2-ND/374823; Price: 1.0215; Resistance Tolerance: 10%; Device Package: 0805 (2012 Metric)
footprint NTC 0805/2012
pins: 1, 2

## NHQM302B410T10
designator R?  Resistance in Ohms @ 25C: 3k
THERMISTOR NTC 3K OHM 10% 0805; Part Number: NHQM302B410T10; Manufacturer: Amphenol Advanced Sensors; TemperatureRange: -40C ~ 125C; B Value Tolerance: 5%; B25/85: 4100K; Value: 3k; PartId: 16739; Supplier 1: Digi-Key; Supplier Part Number 1: 235-1115-2-ND; ComponentLink1Description: Datasheet; ComponentLink2Description: Digi-Key Listing; ComponentLink2URL: https://www.digikey.com/product-detail/en/amphenol-advanced-sensors/NHQM302B410T10/235-1115-2-ND/374821; Price: 1.0215; Resistance Tolerance: 10%; Device Package: 0805 (2012 Metric)
footprint NTC 0805/2012
pins: 1, 2

## NHQM503B415T10
designator R?  Resistance in Ohms @ 25C: 50k
THERMISTOR NTC 50K OHM 10% 0805; Part Number: NHQM503B415T10; Manufacturer: Amphenol Advanced Sensors; TemperatureRange: -40C ~ 125C; B Value Tolerance: 5%; B25/85: 4150K; Value: 50k; PartId: 16753; Supplier 1: Digi-Key; Supplier Part Number 1: 235-1118-2-ND; ComponentLink1Description: Datasheet; ComponentLink2Description: Digi-Key Listing; ComponentLink2URL: https://www.digikey.com/product-detail/en/amphenol-advanced-sensors/NHQM503B415T10/235-1118-2-ND/374824; Price: 1.0215; Resistance Tolerance: 10%; Device Package: 0805 (2012 Metric)
footprint NTC 0805/2012
pins: 1, 2

## NTCG103JF103FT1
designator R?  Resistance in Ohms @ 25C: 10k
THERMISTOR NTC 10K OHM 1% 0402; Part Number: NTCG103JF103FT1; Manufacturer: TDK Corporation; TemperatureRange: -40C ~ 125C; B25/50: 3380K; B25/85: 3435K; Value: 10k; PartId: 16503; Supplier 1: Digi-Key; Supplier Part Number 1: 445-2550-2-ND; ComponentLink1Description: Datasheet; ComponentLink1URL: https://product.tdk.com/info/en/catalog/datasheets/tpd_ntc-thermistor_ntcg_en.pdf; ComponentLink2Description: Digi-Key Listing; ComponentLink2URL: https://www.digikey.com/product-detail/en/tdk-corporation/NTCG103JF103FT1/445-2550-2-ND/614628; Price: 0.0747; Resistance Tolerance: 1%; B Value Tolerance: 1%; Device Package: 0402 (1005 Metric)
footprint FER 0402/1005
pins: 1, 2

## NTCG103JF103HTDS
designator R?  Resistance in Ohms @ 25C: 10k
THERMISTOR, NTC, 10K OHM, 3%, 04; Part Number: NTCG103JF103HTDS; Manufacturer: TDK Corporation; TemperatureRange: -40C ~ 125C; B Value Tolerance: 1%; B25/50: 3380K; B25/85: 3435K; Value: 10k; PartId: 16519; Supplier 1: Digi-Key; Supplier Part Number 1: 445-174508-2-ND; ComponentLink1Description: Datasheet; ComponentLink1URL: //media.digikey.com/pdf/Data%20Sheets/TDK%20PDFs/NTCG103JF103HTDS_Spec.pdf; ComponentLink2Description: Digi-Key Listing; ComponentLink2URL: https://www.digikey.com/product-detail/en/tdk-corporation/NTCG103JF103HTDS/445-174508-2-ND/5981586; Price: 0.0747; Resistance Tolerance: 3%; Device Package: 0402 (1005 Metric)
footprint FER 0402/1005
pins: 1, 2

## NTCG103JX103DT1
designator R?  Resistance in Ohms @ 25C: 10k
THERMISTOR, NTC, 10K OHM, 0.5%,; Part Number: NTCG103JX103DT1; Manufacturer: TDK Corporation; TemperatureRange: -40C ~ 125C; B25/50: 3380K; B25/85: 3435K; Value: 10k; PartId: 16515; Supplier 1: Digi-Key; Supplier Part Number 1: 445-174306-2-ND; ComponentLink1Description: Datasheet; ComponentLink1URL: https://product.tdk.com/info/en/catalog/datasheets/tpd_ntc-thermistor_ntcg_en.pdf; ComponentLink2Description: Digi-Key Listing; ComponentLink2URL: https://www.digikey.com/product-detail/en/tdk-corporation/NTCG103JX103DT1/445-174306-2-ND/5872753; Price: 0.1187; Resistance Tolerance: 0.5%; Device Package: 0402 (1005 Metric)
footprint FER 0402/1005
pins: 1, 2

## NTCG104BF683JT1X
designator R?  Resistance in Ohms @ 25C: 68k
THERMISTOR, NTC, 68K OHM, 5%, 04; Part Number: NTCG104BF683JT1X; Manufacturer: TDK Corporation; TemperatureRange: -40C ~ 125C; B Value Tolerance: 1%; B25/50: 4085K; B25/85: 4150K; Value: 68k; PartId: 16541; Supplier 1: Digi-Key; Supplier Part Number 1: 445-174312-2-ND; ComponentLink1Description: Datasheet; ComponentLink1URL: https://product.tdk.com/info/en/catalog/datasheets/tpd_ntc-thermistor_ntcg_en.pdf; ComponentLink2Description: Digi-Key Listing; ComponentLink2URL: https://www.digikey.com/product-detail/en/tdk-corporation/NTCG104BF683JT1X/445-174312-2-ND/5872759; Price: 0.0338; Resistance Tolerance: 5%; Device Package: 0402 (1005 Metric)
footprint FER 0402/1005
pins: 1, 2

## NTCG104BH152JT1
designator R?  Resistance in Ohms @ 25C: 1.5k
THERMISTOR, NTC, 1.5K OHM, 5%, 0; Part Number: NTCG104BH152JT1; Manufacturer: TDK Corporation; TemperatureRange: -40C ~ 125C; B Value Tolerance: 3%; B25/50: 4096K; B25/85: 4100K; Value: 1.5k; PartId: 16532; Supplier 1: Digi-Key; Supplier Part Number 1: 445-174529-2-ND; ComponentLink1Description: Datasheet; ComponentLink1URL: https://product.tdk.com/info/en/catalog/datasheets/tpd_ntc-thermistor_ntcg_en.pdf; ComponentLink2Description: Digi-Key Listing; ComponentLink2URL: https://www.digikey.com/product-detail/en/tdk-corporation/NTCG104BH152JT1/445-174529-2-ND/5981607; Price: 0.0338; Resistance Tolerance: 5%; Device Package: 0402 (1005 Metric)
footprint FER 0402/1005
pins: 1, 2

## NTCG104BH222HT1
designator R?  Resistance in Ohms @ 25C: 2.2k
THERMISTOR, NTC, 2.2K OHM, 3%, 0; Part Number: NTCG104BH222HT1; Manufacturer: TDK Corporation; TemperatureRange: -40C ~ 125C; B25/50: 4096K; B25/85: 4100K; Value: 2.2k; PartId: 16517; Supplier 1: Digi-Key; Supplier Part Number 1: 445-174530-2-ND; ComponentLink1Description: Datasheet; ComponentLink1URL: https://product.tdk.com/info/en/catalog/datasheets/tpd_ntc-thermistor_ntcg_en.pdf; ComponentLink2Description: Digi-Key Listing; ComponentLink2URL: https://www.digikey.com/product-detail/en/tdk-corporation/NTCG104BH222HT1/445-174530-2-ND/5981608; Price: 0.0747; Resistance Tolerance: 3%; B Value Tolerance: 3%; Device Package: 0402 (1005 Metric)
footprint FER 0402/1005
pins: 1, 2

## NTCG104BH682JT1
designator R?  Resistance in Ohms @ 25C: 6.8k
THERMISTOR, NTC, 6.8K OHM, 5%, 0; Part Number: NTCG104BH682JT1; Manufacturer: TDK Corporation; TemperatureRange: -40C ~ 125C; B Value Tolerance: 3%; B25/50: 4067K; B25/85: 4100K; Value: 6.8k; PartId: 16540; Supplier 1: Digi-Key; Supplier Part Number 1: 445-174315-2-ND; ComponentLink1Description: Datasheet; ComponentLink1URL: https://product.tdk.com/info/en/catalog/datasheets/tpd_ntc-thermistor_ntcg_en.pdf; ComponentLink2Description: Digi-Key Listing; ComponentLink2URL: https://www.digikey.com/product-detail/en/tdk-corporation/NTCG104BH682JT1/445-174315-2-ND/5872762; Price: 0.0338; Resistance Tolerance: 5%; Device Package: 0402 (1005 Metric)
footprint FER 0402/1005
pins: 1, 2

## NTCG104EF104FTDSX
designator R?  Resistance in Ohms @ 25C: 100k
THERMISTOR, NTC, 100K OHM, 1%, 0; Part Number: NTCG104EF104FTDSX; Manufacturer: TDK Corporation; TemperatureRange: -40C ~ 150C; B25/50: 4250K; B25/85: 4308K; Value: 100k; PartId: 16518; Supplier 1: Digi-Key; Supplier Part Number 1: 445-174511-2-ND; ComponentLink1Description: Datasheet; ComponentLink1URL: //media.digikey.com/pdf/Data%20Sheets/TDK%20PDFs/NTCG104EF104FTDSX_Spec.pdf; ComponentLink2Description: Digi-Key Listing; ComponentLink2URL: https://www.digikey.com/product-detail/en/tdk-corporation/NTCG104EF104FTDSX/445-174511-2-ND/5981589; Price: 0.0747; Resistance Tolerance: 1%; B Value Tolerance: 1%; Device Package: 0402 (1005 Metric)
footprint FER 0402/1005
pins: 1, 2

## NTCG104LH104JT1
designator R?  Resistance in Ohms @ 25C: 100k
THERMISTOR, NTC, 100K OHM, 5%, 0; Part Number: NTCG104LH104JT1; Manufacturer: TDK Corporation; TemperatureRange: -40C ~ 125C; B Value Tolerance: 3%; B25/50: 4485K; B25/85: 4550K; Value: 100k; PartId: 16539; Supplier 1: Digi-Key; Supplier Part Number 1: 445-174317-2-ND; ComponentLink1Description: Datasheet; ComponentLink1URL: https://product.tdk.com/info/en/catalog/datasheets/tpd_ntc-thermistor_ntcg_en.pdf; ComponentLink2Description: Digi-Key Listing; ComponentLink2URL: https://www.digikey.com/product-detail/en/tdk-corporation/NTCG104LH104JT1/445-174317-2-ND/5872764; Price: 0.0338; Resistance Tolerance: 5%; Device Package: 0402 (1005 Metric)
footprint FER 0402/1005
pins: 1, 2